# Altium integrated library Enviornmental_Sensor.IntLib: 17 symbols
Pins are listed as number, name and electrical type; pins without a type are passive.

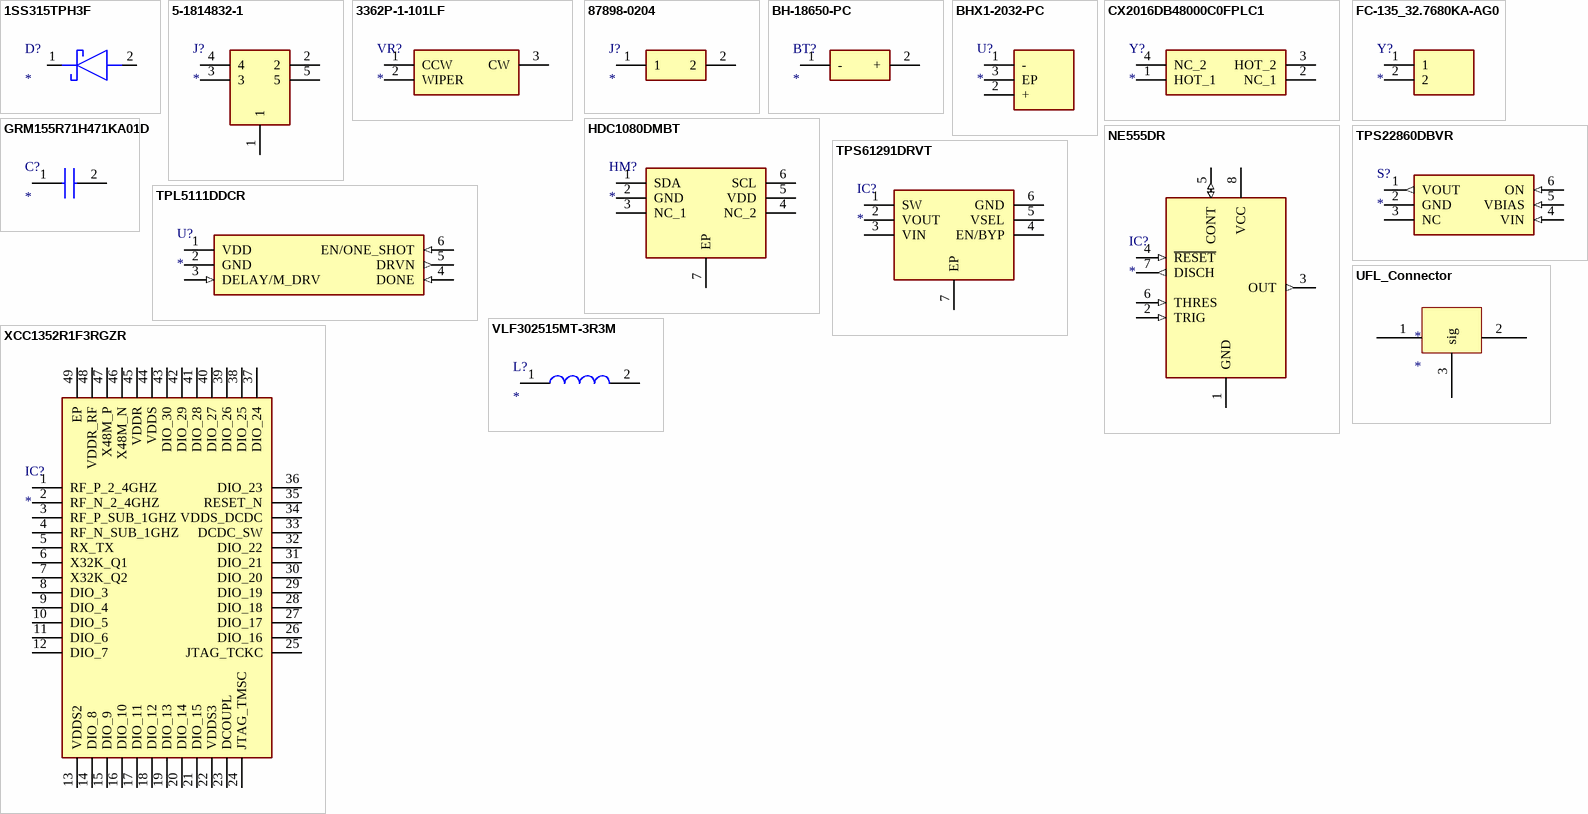
[diagram p0: symbols 1SS315TPH3F to XCC1352R1F3RGZR]

## 1SS315TPH3F
designator D?
Schottky Diode; Manufacturer_Name: Toshiba; Manufacturer_Part_Number: 1SS315TPH3F; Datasheet Link: http://toshiba.semicon-storage.com/info/docget.jsp?did=2666&prodName=1SS315; Height: 1.1mm; Mouser Part Number: 757-1SS315TPH3F; Mouser Price/Stock: https://www.mouser.com/Search/Refine.aspx?Keyword=757-1SS315TPH3F
footprint SOD2513X110N
pins: 1 K, 2 A

## 5-1814832-1
designator J?
Connector; Manufacturer_Name: TE Connectivity; Manufacturer_Part_Number: 5-1814832-1; Allied_Number: 70084637; Datasheet Link: http://www.te.com/commerce/DocumentDelivery/DDEController?Action=srchrtrv&DocNm=1814832&DocType=Customer+Drawing&DocLang=English; Mouser Part Number: 571-5-1814832-1; Mouser Price/Stock: https://www.mouser.com/Search/Refine.aspx?Keyword=571-5-1814832-1; RS Part Number: 6163422; RS Price/Stock: http://uk.rs-online.com/web/p/products/6163422; Allied Price/Stock: https://www.alliedelec.com/te-connectivity-5-1814832-1/70084637/
footprint 5-1814832-1
pins: 1, 2, 3, 4, 5

## 3362P-1-101LF
designator VR?
Variable Resistor; Manufacturer_Name: Bourns; Manufacturer_Part_Number: 3362P-1-101LF; Allied_Number: 70154047; Datasheet Link: https://www.bourns.com/docs/Product-Datasheets/3362.pdf; Height: 4.95mm; Mouser Part Number: 652-3362P-1-101LF; Mouser Price/Stock: https://www.mouser.com/Search/Refine.aspx?Keyword=652-3362P-1-101LF; RS Part Number: 5220877P; RS Price/Stock: http://uk.rs-online.com/web/p/products/5220877P; Allied Price/Stock: https://www.alliedelec.com/bourns-3362p-1-101lf/70154047/
footprint 3362P1101LF
pins: 1 CCW, 2 WIPER, 3 CW

## 87898-0204
designator J?
Connector; Manufacturer_Name: Molex; Manufacturer_Part_Number: 87898-0204; Allied_Number: 70967354; Datasheet Link: https://www.molex.com/pdm_docs/sd/878980204_sd.pdf; Height: 8.33mm; Mouser Part Number: 538-87898-0204; Mouser Price/Stock: https://www.mouser.com/Search/Refine.aspx?Keyword=538-87898-0204; Allied Price/Stock: https://www.alliedelec.com/molex-incorporated-87898-0204/70967354/
footprint 878980204
pins: 1, 2

## BH-18650-PC
designator BT?
Battery; Manufacturer_Name: MPD (Memory Protection Devices); Manufacturer_Part_Number: BH-18650-PC; Datasheet Link: http://www.memoryprotectiondevices.com/datasheets/BH-18650-PC-datasheet.pdf; Height: 21.31mm
footprint BH18650PC
pins: 1 -, 2 +

## BHX1-2032-PC
designator U?
Undefined or Miscellaneous; Manufacturer_Name: MPD (Memory Protection Devices); Manufacturer_Part_Number: BHX1-2032-PC; Datasheet Link: http://www.memoryprotectiondevices.com/datasheets/BHX1-2032-PC-datasheet.pdf; Height: 4.16mm
footprint BHX12032PC
pins: 1 -, 2 +, 3 EP

## CX2016DB48000C0FPLC1
designator Y?
Crystal or Oscillator; Manufacturer_Name: Kyocera Electronic Components; Manufacturer_Part_Number: CX2016DB48000C0FPLC1; Datasheet Link: https://componentsearchengine.com/Datasheets/1/CX2016DB48000C0FPLC1.pdf; Mouser Part Number: 581-CX2016DB48CFPLC1; Mouser Price/Stock: https://www.mouser.com/Search/Refine.aspx?Keyword=581-CX2016DB48CFPLC1
footprint CX2016DB48000C0FPLC1
pins: 1 HOT_1, 2 NC_1, 3 HOT_2, 4 NC_2

## FC-135_32.7680KA-AG0
designator Y?
Crystal or Oscillator; Manufacturer_Name: Epson Timing; Manufacturer_Part_Number: FC-135 32.7680KA-AG0; Datasheet Link: https://support.epson.biz/td/api/doc_check.php?dl=brief_FC-135&lang=en/.pdf; Height: 0mm; Mouser Part Number: 732-FC135-32.76KAAG0; Mouser Price/Stock: https://www.mouser.com/Search/Refine.aspx?Keyword=732-FC135-32.76KAAG0
footprint FC135327680KAAG0
pins: 1, 2

## GRM155R71H471KA01D
designator C?
Capacitor; Manufacturer_Name: Murata Electronics; Manufacturer_Part_Number: GRM155R71H471KA01D; Datasheet Link: http://www.murata.com/~/media/webrenewal/support/library/catalog/products/capacitor/mlcc/c02e.pdf; Height: 0.55mm; Mouser Part Number: 81-GRM36X471K50; Mouser Price/Stock: https://www.mouser.com/Search/Refine.aspx?Keyword=81-GRM36X471K50; RS Part Number: 7235301; RS Price/Stock: https://uk.rs-online.com/web/p/products/7235301
footprint CAPC1005X55N
pins: 1, 2

## HDC1080DMBT
designator HM?
Hygrometer; Manufacturer_Name: Texas Instruments; Manufacturer_Part_Number: HDC1080DMBT; Datasheet Link: http://www.mouser.com/ds/2/405/hdc1080-844688.pdf; Height: 0.8mm; Mouser Part Number: 595-HDC1080DMBT; Mouser Price/Stock: https://www.mouser.com/Search/Refine.aspx?Keyword=595-HDC1080DMBT; RS Part Number: 1330170P; RS Price/Stock: http://uk.rs-online.com/web/p/products/1330170P
footprint SON100P300X300X80-7N
pins: 1 SDA, 2 GND (power), 3 NC_1, 4 NC_2, 5 VDD (power), 6 SCL, 7 EP (power)

## NE555DR
designator IC?
Integrated Circuit; Manufacturer_Name: Texas Instruments; Manufacturer_Part_Number: NE555DR; Datasheet Link: http://www.ti.com/lit/ds/symlink/ne555.pdf; Height: 1.75mm; Mouser Part Number: 595-NE555DR; Mouser Price/Stock: https://www.mouser.com/Search/Refine.aspx?Keyword=595-NE555DR; RS Part Number: 1218414; RS Price/Stock: http://uk.rs-online.com/web/p/products/1218414
footprint SOIC127P600X175-8N
pins: 1 GND (power), 2 TRIG (in), 3 OUT (out), 4 ~{RESET} (in), 5 CONT (io), 6 THRES (in), 7 DISCH (out), 8 VCC (power)

## TPL5111DDCR
designator U?
Undefined or Miscellaneous; Manufacturer_Name: Texas Instruments; Manufacturer_Part_Number: TPL5111DDCR; Datasheet Link: http://www.ti.com/lit/ds/symlink/tpl5111.pdf; Height: 1.1mm; Mouser Part Number: 595-TPL5111DDCR; Mouser Price/Stock: https://www.mouser.com/Search/Refine.aspx?Keyword=595-TPL5111DDCR
footprint SOT95P280X110-6N
pins: 1 VDD (power), 2 GND (power), 3 DELAY/M_DRV (in), 4 DONE (in), 5 DRVN (out), 6 EN/ONE_SHOT (in)

## TPS22860DBVR
designator S?
Switch; Manufacturer_Name: Texas Instruments; Manufacturer_Part_Number: TPS22860DBVR; Datasheet Link: http://www.ti.com/lit/gpn/tps22860; Height: 1.45mm; Mouser Part Number: 595-TPS22860DBVR; Mouser Price/Stock: https://www.mouser.com/Search/Refine.aspx?Keyword=595-TPS22860DBVR
footprint SOT95P280X145-6N
pins: 1 VOUT (out), 2 GND (power), 3 NC, 4 VIN (in), 5 VBIAS (in), 6 ON (in)

## TPS61291DRVT
designator IC?
Integrated Circuit; Manufacturer_Name: Texas Instruments; Manufacturer_Part_Number: TPS61291DRVT; Datasheet Link: http://uk.rs-online.com/web/p/products/9143112P; Height: 0.8mm; Mouser Part Number: 595-TPS61291DRVT; Mouser Price/Stock: https://www.mouser.com/Search/Refine.aspx?Keyword=595-TPS61291DRVT; RS Part Number: 9143112P; RS Price/Stock: http://uk.rs-online.com/web/p/products/9143112P
footprint SON65P200X200X80-7N
pins: 1 SW, 2 VOUT, 3 VIN, 4 EN/BYP, 5 VSEL, 6 GND, 7 EP

## UFL_Connector
designator *
CONN U.FL RCPT STR 50 OHM SMD
footprint UFL_Connector (CONN U.FL RCPT STR 50 OHM SMD)
pins: 1 12, 2 14, 3 sig

## VLF302515MT-3R3M
designator L?
Inductor; Manufacturer_Name: TDK; Manufacturer_Part_Number: VLF302515MT-3R3M; Datasheet Link: https://product.tdk.com/info/en/documents/wdcatalog/withdrawn_inductor_commercial_power_vlf302515mt_en.pdf; Mouser Part Number: 810-VLF302515MT-3R3M; Mouser Price/Stock: https://www.mouser.com/Search/Refine.aspx?Keyword=810-VLF302515MT-3R3M
footprint VLF302515MT
pins: 1, 2

## XCC1352R1F3RGZR
designator IC?
Integrated Circuit; Manufacturer_Name: Texas Instruments; Manufacturer_Part_Number: XCC1352R1F3RGZR; Datasheet Link: http://www.ti.com/lit/gpn/cc1352r; Height: 1mm
footprint QFN50P700X700X100-49N-D
pins: 1 RF_P_2_4GHZ, 2 RF_N_2_4GHZ, 3 RF_P_SUB_1GHZ, 4 RF_N_SUB_1GHZ, 5 RX_TX, 6 X32K_Q1, 7 X32K_Q2, 8 DIO_3, 9 DIO_4, 10 DIO_5, 11 DIO_6, 12 DIO_7, 13 VDDS2, 14 DIO_8, 15 DIO_9, 16 DIO_10, 17 DIO_11, 18 DIO_12, 19 DIO_13, 20 DIO_14, 21 DIO_15, 22 VDDS3, 23 DCOUPL, 24 JTAG_TMSC, 25 JTAG_TCKC, 26 DIO_16, 27 DIO_17, 28 DIO_18, 29 DIO_19, 30 DIO_20, 31 DIO_21, 32 DIO_22, 33 DCDC_SW, 34 VDDS_DCDC, 35 RESET_N, 36 DIO_23, 37 DIO_24, 38 DIO_25, 39 DIO_26, 40 DIO_27, 41 DIO_28, 42 DIO_29, 43 DIO_30, 44 VDDS, 45 VDDR, 46 X48M_N, 47 X48M_P, 48 VDDR_RF, 49 EP